# EAGLE library part ESP8266 (library voodoo)
ESP8266, simple wifi low cost dongel
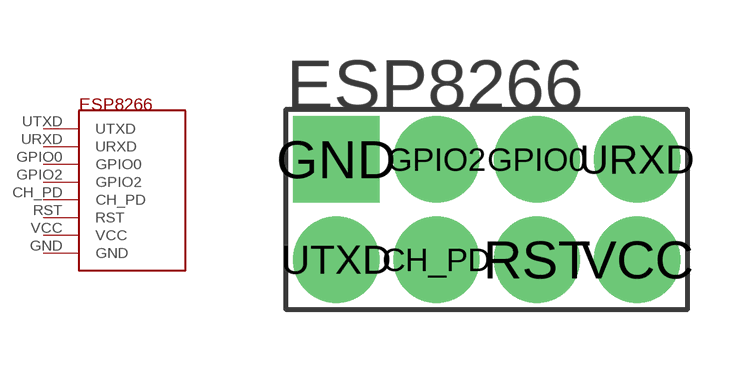
[diagram p2: symbol with the pads of ESP8266; footprint ESP8266]

Designator prefix -

## ESP8266  [ESP8266]
CH_PD  CH_PD
GND  GND  pwr
GPIO0  GPIO0
GPIO2  GPIO2
RST  RST
URXD  URXD
UTXD  UTXD
VCC  VCC  pwr

## Footprint ESP8266 (pad centres in mm)
drill 0.8 pad 2.184: CH_PD -1.27,-1.27; GPIO0 1.27,1.27; GPIO2 -1.27,1.27; RST 1.27,-1.27; URXD 3.81,1.27; UTXD -3.81,-1.27; VCC 3.81,-1.27
drill 0.8 pad 2.184 square: GND -3.81,1.27